# Altium footprint library диоды.PcbLib: 45 footprints (part 1 of 3)
Each footprint in its own frame and in the unit in brackets; x right, y up, seen from the top. Pads: shape width x height; smd on the part's side, far side on the other; paste and mask are expansions set on the pad; w line width, h text height; cw(c..) or ccw(c..) is an arc to the next point about the centre after c.
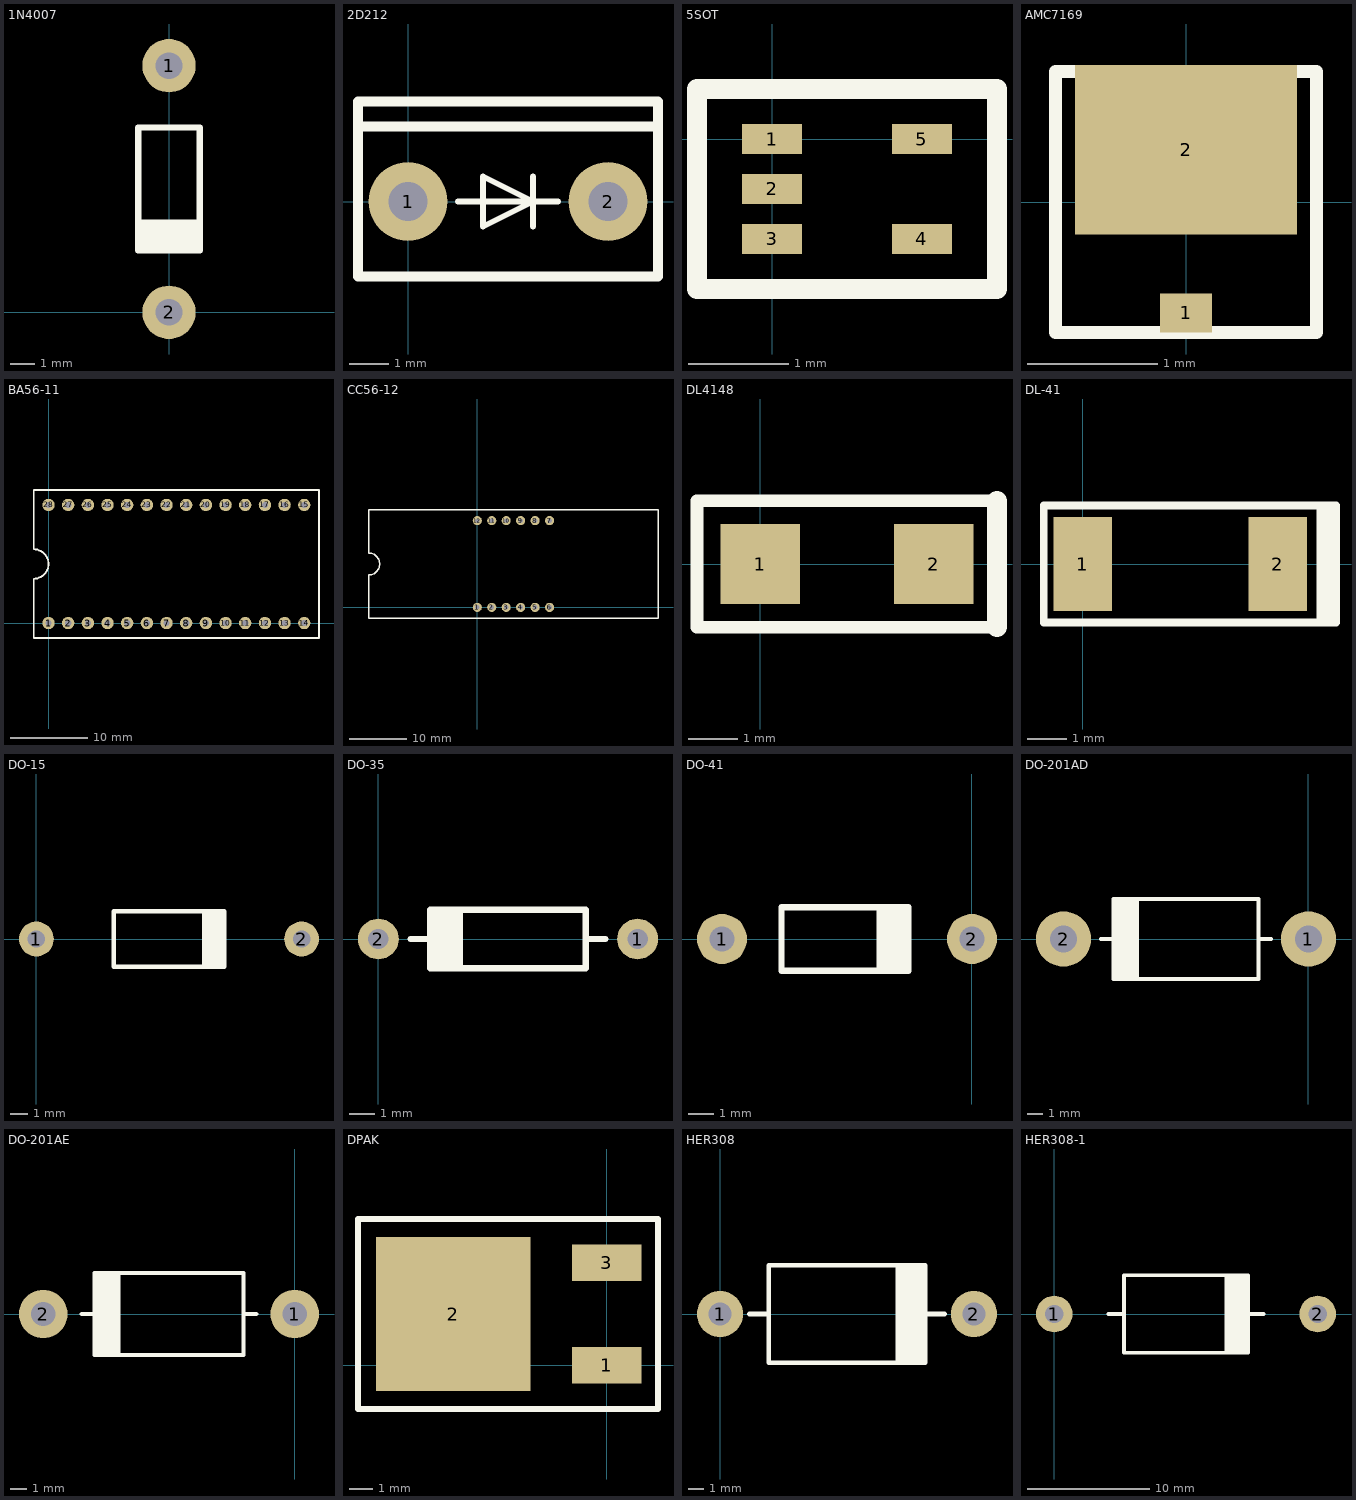
[diagram p0: the footprints below, top view; thin cyan lines are the x and y axes]

## 1N4007 [mm]
pads (2):
  round 2.2 hole 1.1: 1(0,10.16) 2(0,0)
Top Overlay:
  region: 1.27,2.54 1.27,3.81 -1.27,3.81 -1.27,2.54
  lines w0.254: -1.27,2.54 1.27,2.54 1.27,7.62 -1.27,7.62 -1.27,2.54

## 2D212 [mm]
pads (2):
  round 2 hole 1: 1(0,0) 2(5.08,0)
Top Overlay:
  lines w0.15: 1.27,0 3.81,0 ; 3.175,-0.635 3.175,0.635 ; 1.905,-0.635 3.175,0 1.905,0.635 1.905,-0.635
  lines w0.254: -1.27,1.905 6.35,1.905 ; -1.27,-1.905 6.35,-1.905 6.35,2.54 -1.27,2.54 -1.27,-1.905

## 5SOT [mm]
pads (5):
  rect 0.6x0.3 smd: 1(0,0) 2(0,-0.5) 3(0,-1) 4(1.5,-1) 5(1.5,0)
Top Overlay:
  lines w0.2: -0.75,-1.5 -0.75,0.5 2.25,0.5 2.25,-1.5 -0.75,-1.5

## AMC7169 [mm]
pads (2):
  rect 0.4x0.3 smd: 1(0,-0.85)
  rect 1.7x1.3 smd: 2(0,0.4)
Top Overlay:
  lines w0.1: -1,-1 1,-1 1,1 -1,1 -1,-1

## BA56-11 [mm]
pads (28):
  round 1.6 hole 0.8: 1(0,0) 2(2.54,0) 3(5.08,0) 4(7.62,0) 5(10.16,0) 6(12.7,0) 7(15.24,0) 8(17.78,0) 9(20.32,0) 10(22.86,0) 11(25.4,0) 12(27.94,0) 13(30.48,0) 14(33.02,0) 15(33.02,15.24) 16(30.48,15.24) 17(27.94,15.24) 18(25.4,15.24) 19(22.86,15.24) 20(20.32,15.24) 21(17.78,15.24) 22(15.24,15.24) 23(12.7,15.24) 24(10.16,15.24) 25(7.62,15.24) 26(5.08,15.24) 27(2.54,15.24) 28(0,15.24)
Top Overlay:
  lines w0.254: -1.905,-1.905 34.925,-1.905 34.925,17.145 -1.905,17.145 -1.905,9.525 cw(c-1.905,7.62) -1.905,5.715 -1.905,-1.905

## CC56-12 [mm]
pads (12):
  round 1.6 hole 0.8: 1(0,0) 2(2.54,0) 3(5.08,0) 4(7.62,0) 5(10.16,0) 6(12.7,0) 7(12.7,15.24) 8(10.16,15.24) 9(7.62,15.24) 10(5.08,15.24) 11(2.54,15.24) 12(0,15.24)
Top Overlay:
  lines w0.254: -19.05,-1.905 31.75,-1.905 31.75,17.145 -19.05,17.145 -19.05,9.525 cw(c-19.05,7.62) -19.05,5.715 -19.05,-1.905

## DL4148 [mm]
pads (2):
  rect 1.6x1.6 smd: 1(0,0) 2(3.492,0)
Top Overlay:
  lines w0.254: 4.763,-1.27 -1.27,-1.27 -1.27,1.27 4.763,1.27
  lines w0.4: 4.763,-1.27 4.763,1.27

## DL-41 [mm]
pads (2):
  rect 1.5x2.4 smd: 1(0,0) 2(5,0)
Top Overlay:
  region: 6,-1.5 6.5,-1.5 6.5,1.5 6,1.5
  lines w0.2: -1,-1.5 6.5,-1.5 6.5,1.5 -1,1.5 -1,-1.5

## DO-15 [mm]
pads (2):
  round 2 hole 1: 1(0,0) 2(15.24,0)
Top Overlay:
  region: 10.795,1.587 9.525,1.587 9.525,-1.587 10.795,-1.587
  lines w0.254: 4.445,-1.587 10.795,-1.587 10.795,1.587 4.445,1.587 4.445,-1.587

## DO-35 [mm]
pads (2):
  round 1.6 hole 0.8: 1(10.16,0) 2(0,0)
Top Overlay:
  region: 2.032,-1.143 3.302,-1.143 3.302,1.143 2.032,1.143
  lines w0.254: 1.27,0 2.032,0 ; 8.128,0 8.89,0 ; 2.032,-1.143 8.128,-1.143 8.128,1.143 2.032,1.143 2.032,-1.143

## DO-41 [mm]
pads (2):
  round 2 hole 1: 1(-10,0) 2(0,0)
Top Overlay:
  region: -2.54,1.27 -3.81,1.27 -3.81,-1.27 -2.54,-1.27
  lines w0.254: -7.62,-1.27 -2.54,-1.27 -2.54,1.27 -7.62,1.27 -7.62,-1.27
3D body "User Library-DO-41 10mm.SLDPRT": height 4.36, standoff -1, extent -10.51,-1.362 0.35,1.363

## DO-201AD [mm]
pads (2):
  round 3.5 hole 1.7: 1(0,0) 2(-15.557,0)
Top Overlay:
  region: -12.383,-2.54 -10.795,-2.54 -10.795,2.54 -12.383,2.54
  lines w0.254: -13.176,0 -12.414,0 ; -3.143,0 -2.381,0 ; -12.383,-2.54 -3.175,-2.54 -3.175,2.54 -12.383,2.54 -12.383,-2.54
3D body "User Library-DO-201AD.STEP": height 7.6, standoff -4, extent -16.027,-2.806 0.533,2.794

## DO-201AE [mm]
pads (2):
  round 3 hole 1.5: 1(0,0) 2(-15.557,0)
Top Overlay:
  region: -12.383,-2.54 -10.795,-2.54 -10.795,2.54 -12.383,2.54
  lines w0.254: -13.176,0 -12.414,0 ; -3.143,0 -2.381,0 ; -12.383,-2.54 -12.383,2.54 -3.175,2.54 -3.175,-2.54 -12.383,-2.54

## DPAK [mm]
pads (3):
  rect 3x1.6 smd: 1(0,0) 3(0,4.445)
  rect 6.7x6.7 smd: 2(-6.667,2.222)
Top Overlay:
  lines w0.254: -10.795,-1.905 2.222,-1.905 2.222,6.35 -10.795,6.35 -10.795,-1.905
3D body "User Library-TO252AA.SLDPRT": height 2.3, standoff -0.01, extent -9.05,-1.08 0.65,5.5

## HER308 [mm]
pads (2):
  round 3 hole 1.5: 1(0,0) 2(16.51,0)
Top Overlay:
  region: 13.335,3.175 11.43,3.175 11.43,-3.175 13.335,-3.175
  lines w0.305: 1.905,0 3.175,0 ; 13.335,0 14.605,0 ; 3.175,-3.175 13.335,-3.175 13.335,3.175 3.175,3.175 3.175,-3.175

## HER308-1 [mm]
pads (2):
  round 3 hole 1.5: 1(0,0) 2(21.59,0)
Top Overlay:
  region: 15.875,3.175 13.97,3.175 13.97,-3.175 15.875,-3.175
  lines w0.305: 4.445,0 5.715,0 ; 15.875,0 17.145,0 ; 5.715,-3.175 15.875,-3.175 15.875,3.175 5.715,3.175 5.715,-3.175